# Altium footprint library 杂项库.PcbLib: 585 footprints (part 13 of 37)
Each footprint in its own frame and in the unit in brackets; x right, y up, seen from the top. Pads: shape width x height; smd on the part's side, far side on the other; paste and mask are expansions set on the pad; w line width, h text height; cw(c..) or ccw(c..) is an arc to the next point about the centre after c.
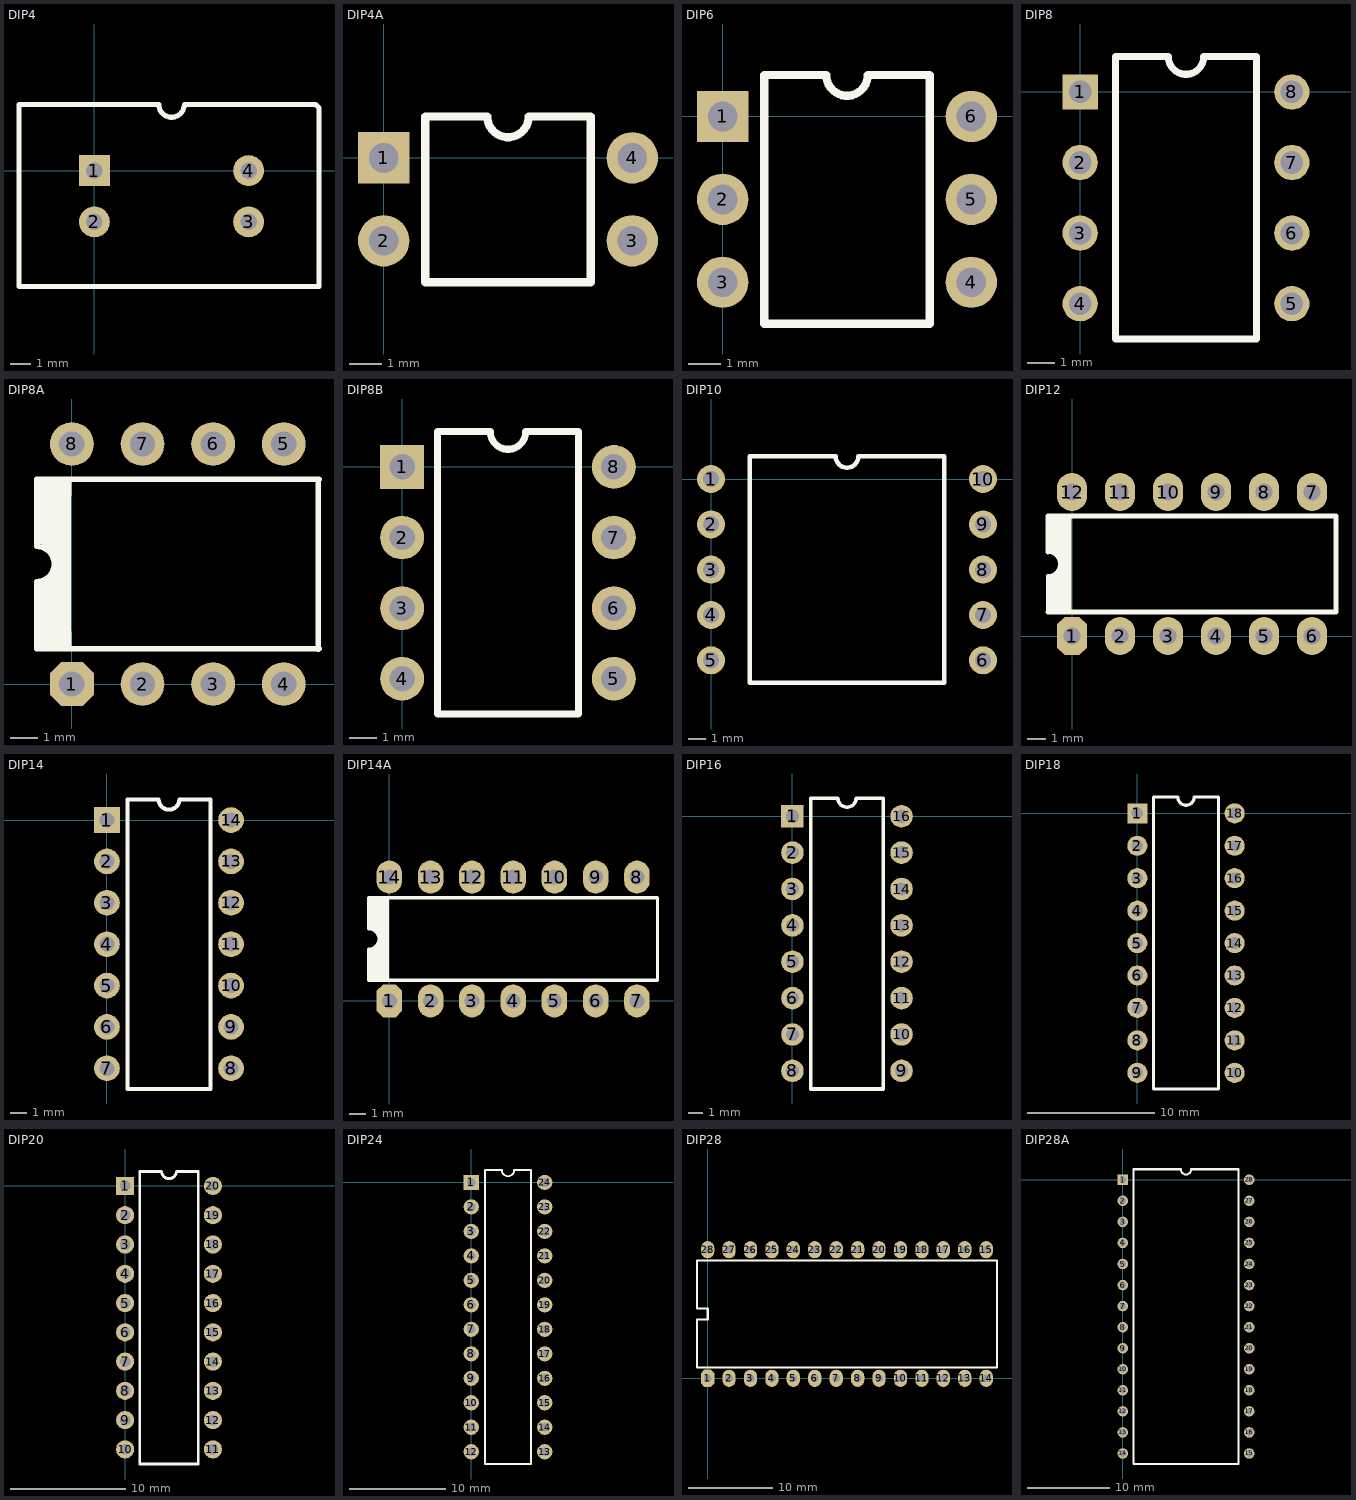
[diagram p12: the footprints below, top view; thin cyan lines are the x and y axes]

## DIP4 [mil]
pads (4):
  rect 60x60 hole 32: 1(0,0)
  round 60 hole 32: 2(0,-100) 3(300,-100) 4(300,0)
Top Overlay:
  lines w10: -146.85,-225.59 -146.85,128.74 50,128.74 125,128.74 ccw(c150,128.74) 175,128.74 250,128.74 430.31,128.74 437.01,122.05 437.01,-225.39 436.81,-225.59 -146.85,-225.59

## DIP4A [mil]
pads (4):
  rect 62x62 hole 36: 1(0,0)
  round 62 hole 36: 2(0,-100) 3(300,-100) 4(300,0)
Top Overlay:
  lines w10: 50,-150 50,50 125,50 ccw(c150,50) 175,50 250,50 250,-150 50,-150

## DIP6 [mil]
pads (6):
  rect 62x62 hole 36: 1(0,0)
  round 62 hole 36: 2(0,-100) 3(0,-200) 4(300,-200) 5(300,-100) 6(300,0)
Top Overlay:
  lines w10: 50,-250 250,-250 250,50 175,50 cw(c150,50) 125,50 50,50 50,-250

## DIP8 [mil]
pads (8):
  rect 50x50 hole 32: 1(0,0)
  round 50 hole 32: 2(0,-100) 3(0,-200) 4(0,-300) 5(300,-300) 6(300,-200) 7(300,-100) 8(300,0)
Top Overlay:
  lines w10: 50,-350 50,50 125,50 ccw(c150,50) 175,50 250,50 250,-350 50,-350

## DIP8A [mil]
pads (8):
  oct 62x62 hole 36: 1(0,0)
  round 62 hole 36: 2(100,0) 3(200,0) 4(300,0) 5(300,340) 6(200,340) 7(100,340) 8(0,340)
Top Overlay:
  region: -1,145 -50,145 -50,70 -1,70
  region: -1,270 -27,270 -27,145 -1,145
  region: -21,270 -50,270 -50,198 -21,198
  region: -0.9,74.7 -53.8,74.7 -53.8,49.5 -0.9,49.5
  region: -0.8,290.2 -53.9,290.2 -53.9,266.6 -0.8,266.6
  lines w8: -50,50 350,50 ; -50,70 -50,145 ccw(c-50,170) -50,195 -50,270 ; -50,290 350,290 ; 349,49 349,286
  lines w10: -39,200 -33,194 -26,194 -26,187 ; -34,145 -27,145 -27,153

## DIP8B [mil]
pads (8):
  rect 62x62 hole 36: 1(0,0)
  round 62 hole 36: 2(0,-100) 3(0,-200) 4(0,-300) 5(300,-300) 6(300,-200) 7(300,-100) 8(300,0)
Top Overlay:
  lines w10: 50,-350 50,50 125,50 ccw(c150,50) 175,50 250,50 250,-350 50,-350

## DIP10 [mil]
pads (10):
  round 62 hole 36: 1(0,0) 2(0,-100) 3(0,-200) 4(0,-300) 5(0,-400) 6(600,-400) 7(600,-300) 8(600,-200) 9(600,-100) 10(600,0)
Top Overlay:
  lines w10: 85,-450 85,50 275,50 ccw(c300,50) 325,50 515,50 515,-450 85,-450

## DIP12 [mil]
pads (12):
  oct 62x80 hole 36: 1(0,0)
  oval 62x80 hole 36: 2(100,0) 3(200,0) 4(300,0) 5(400,0) 6(500,0) 7(500,300) 8(400,300) 9(300,300) 10(200,300) 11(100,300) 12(0,300)
Top Overlay:
  region: -21,250 -50,250 -50,178 -21,178
  region: -1,250 -27,250 -27,125 -1,125
  region: -1,125 -50,125 -50,50 -1,50
  lines w8: -50,50 -50,125 ccw(c-50,150) -50,175
  lines w10: -50.31,175.13 -50.31,250.13 ; -50,50 550,50 550,250 -50,250 ; -39,180 -33,174 -26,174 -26,167 ; -34,125 -27,125 -27,133

## DIP14 [mil]
pads (14):
  rect 62x62 hole 36: 1(0,0)
  round 62 hole 36: 2(0,-100) 3(0,-200) 4(0,-300) 5(0,-400) 6(0,-500) 7(0,-600) 8(300,-600) 9(300,-500) 10(300,-400) 11(300,-300) 12(300,-200) 13(300,-100) 14(300,0)
Top Overlay:
  lines w10: 50,-650 250,-650 250,50 175,50 cw(c150,50) 125,50 50,50 50,-650

## DIP14A [mil]
pads (14):
  oct 62x80 hole 36: 1(0,0)
  oval 62x80 hole 36: 2(100,0) 3(200,0) 4(300,0) 5(400,0) 6(500,0) 7(600,0) 8(600,300) 9(500,300) 10(400,300) 11(300,300) 12(200,300) 13(100,300) 14(0,300)
Top Overlay:
  region: -21,250 -50,250 -50,178 -21,178
  region: -1,250 -27,250 -27,125 -1,125
  region: -1,125 -50,125 -50,50 -1,50
  lines w8: -50,50 650,50 650,250 -50,250 -50,175 cw(c-50,150) -50,125 -50,50
  lines w10: -39,180 -33,174 -26,174 -26,167 ; -34,125 -27,125 -27,133
Bottom Overlay:
  region: 2,249 -27,249 -27,50 2,50
  region: -16,124 -49,124 -49,50 -16,50
  region: -15,249 -49,249 -49,175 -15,175
  lines w10: -30,124 -16,124 ; -2,58 -2,248 ; -50,50 650,50 651,51 651,249 -49,249 -49,178 cw(c-49,151) -49,124 -49,51 -50,50

## DIP16 [mil]
pads (16):
  rect 62x62 hole 36: 1(0,0)
  round 62 hole 36: 2(0,-100) 3(0,-200) 4(0,-300) 5(0,-400) 6(0,-500) 7(0,-600) 8(0,-700) 9(300,-700) 10(300,-600) 11(300,-500) 12(300,-400) 13(300,-300) 14(300,-200) 15(300,-100) 16(300,0)
Top Overlay:
  lines w10: 50,-750 250,-750 250,50 175,50 cw(c150,50) 125,50 50,50 50,-750

## DIP18 [mil]
pads (18):
  rect 62x62 hole 36: 1(0,0)
  round 62 hole 36: 2(0,-100) 3(0,-200) 4(0,-300) 5(0,-400) 6(0,-500) 7(0,-600) 8(0,-700) 9(0,-800) 10(300,-800) 11(300,-700) 12(300,-600) 13(300,-500) 14(300,-400) 15(300,-300) 16(300,-200) 17(300,-100) 18(300,0)
Top Overlay:
  lines w10: 50,-850 250,-850 250,50 175,50 cw(c150,50) 125,50 50,50 50,-850

## DIP20 [mil]
pads (20):
  rect 62x62 hole 36: 1(0,0)
  round 62 hole 36: 2(0,-100) 3(0,-200) 4(0,-300) 5(0,-400) 6(0,-500) 7(0,-600) 8(0,-700) 9(0,-800) 10(0,-900) 11(300,-900) 12(300,-800) 13(300,-700) 14(300,-600) 15(300,-500) 16(300,-400) 17(300,-300) 18(300,-200) 19(300,-100) 20(300,0)
Top Overlay:
  lines w10: 50,-950 250,-950 250,50 175,50 cw(c150,50) 125,50 50,50 50,-950

## DIP24 [mil]
pads (24):
  rect 62x62 hole 36: 1(0,0)
  round 62 hole 36: 2(0,-100) 3(0,-200) 4(0,-300) 5(0,-400) 6(0,-500) 7(0,-600) 8(0,-700) 9(0,-800) 10(0,-900) 11(0,-1000) 12(0,-1100) 13(300,-1100) 14(300,-1000) 15(300,-900) 16(300,-800) 17(300,-700) 18(300,-600) 19(300,-500) 20(300,-400) 21(300,-300) 22(300,-200) 23(300,-100) 24(300,0)
Top Overlay:
  lines w7.87: 56.5,-1150 243.5,-1150 243.5,50 175,50 cw(c150,50) 125,50 56.5,50 56.5,-1150

## DIP28 [mil]
pads (28):
  oct 62x80 hole 36: 1(0,0)
  oval 62x80 hole 36: 2(100,0) 3(200,0) 4(300,0) 5(400,0) 6(500,0) 7(600,0) 8(700,0) 9(800,0) 10(900,0) 11(1000,0) 12(1100,0) 13(1200,0) 14(1300,0) 15(1300,600) 16(1200,600) 17(1100,600) 18(1000,600) 19(900,600) 20(800,600) 21(700,600) 22(600,600) 23(500,600) 24(400,600) 25(300,600) 26(200,600) 27(100,600) 28(0,600)
Top Overlay:
  lines w10: -49.5,49.96 -49.5,274.96 0.5,274.96 0.5,324.96 -49.5,324.96 -49.5,549.96 1350.5,549.96 1350.5,49.96 -49.5,49.96

## DIP28A [mil]
pads (28):
  rect 50x50 hole 32: 1(0,0)
  round 50 hole 32: 2(0,-100) 3(0,-200) 4(0,-300) 5(0,-400) 6(0,-500) 7(0,-600) 8(0,-700) 9(0,-800) 10(0,-900) 11(0,-1000) 12(0,-1100) 13(0,-1200) 14(0,-1300) 15(600,-1300) 16(600,-1200) 17(600,-1100) 18(600,-1000) 19(600,-900) 20(600,-800) 21(600,-700) 22(600,-600) 23(600,-500) 24(600,-400) 25(600,-300) 26(600,-200) 27(600,-100) 28(600,0)
Top Overlay:
  lines w10: 50,-1350 50,50 275,50 ccw(c300,50) 325,50 550,50 550,-1350 50,-1350